# Altium integrated library Linear Technology Power Management Switching Regulator LT1074-LT8705.IntLib: 2252 symbols (part 111 of 148)
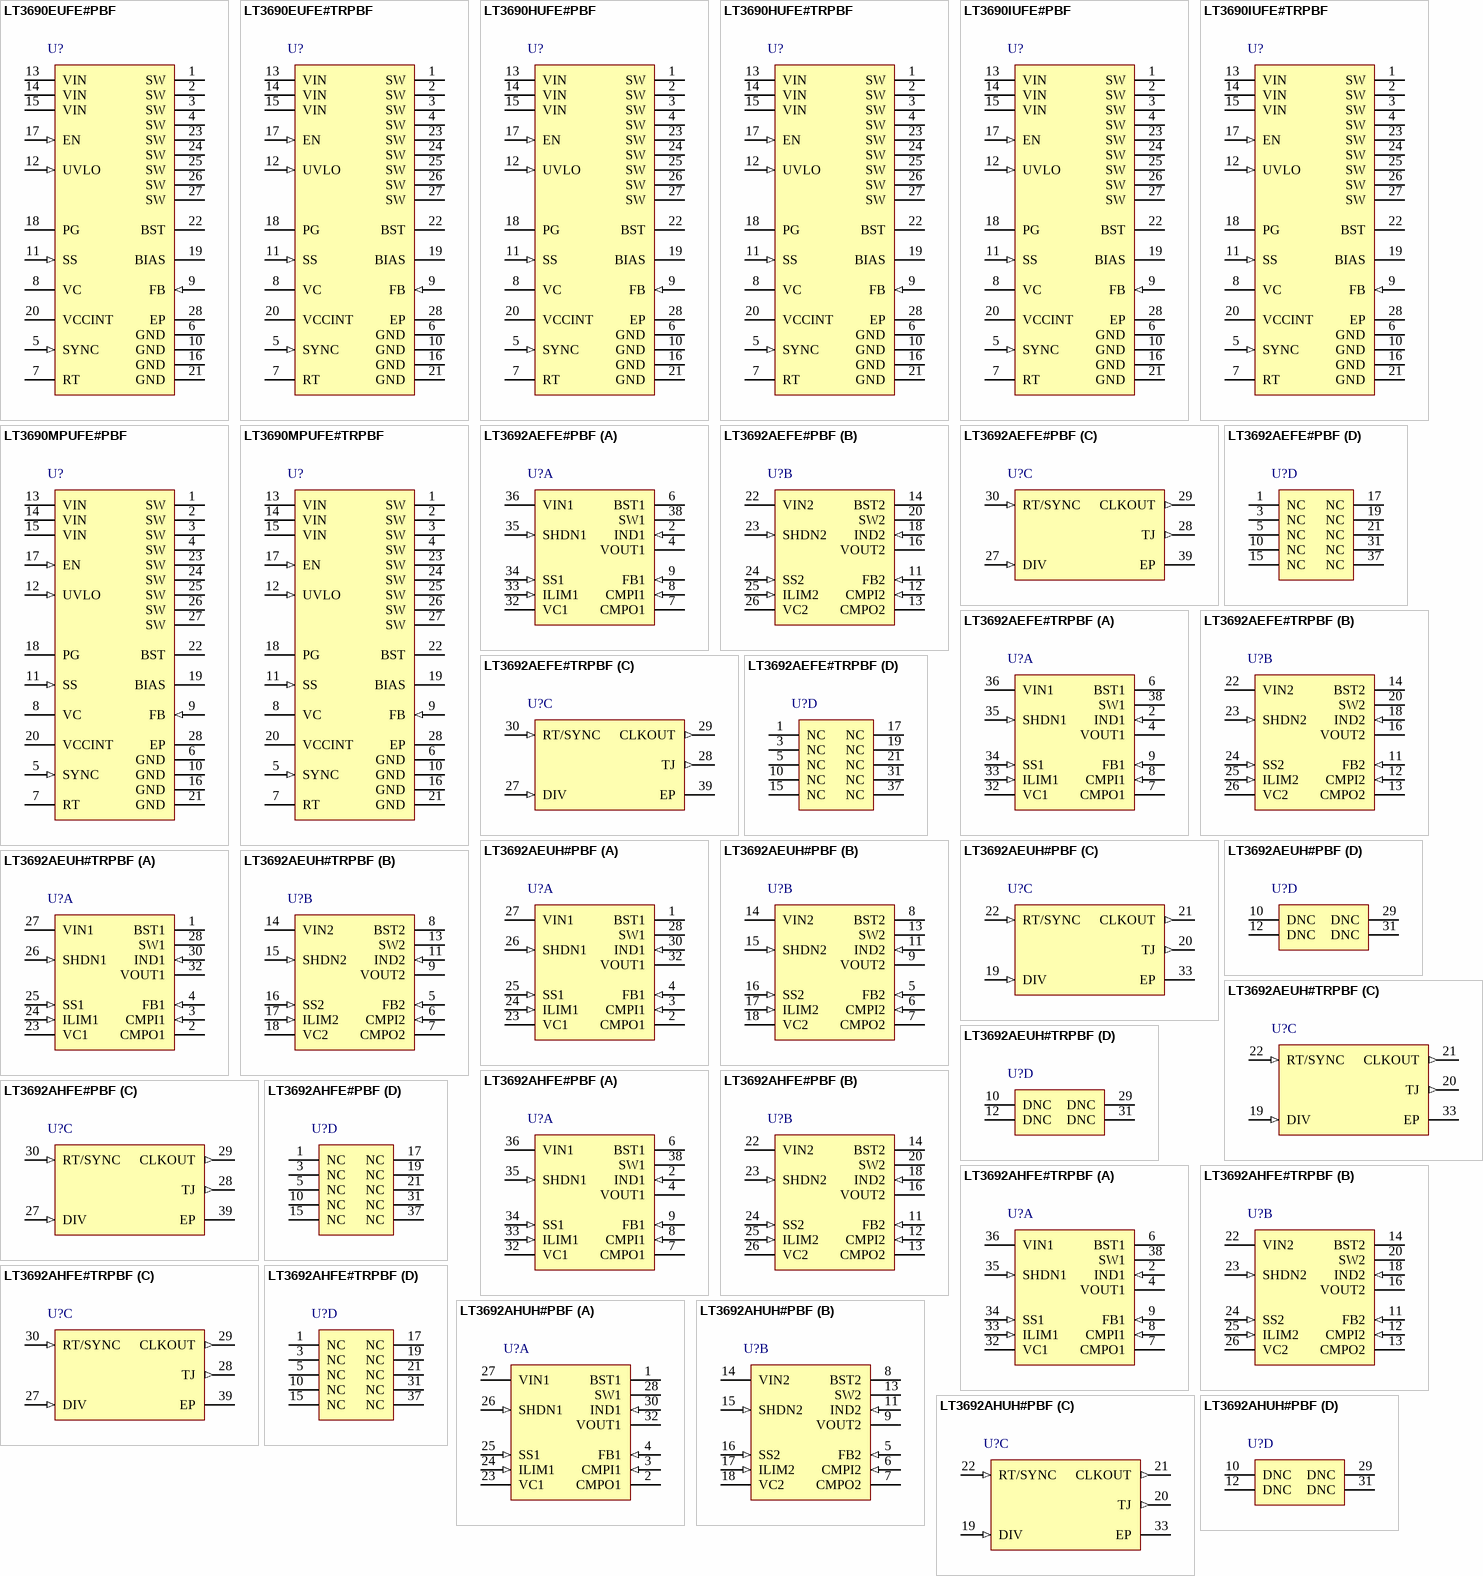
[diagram p181: symbols LT3690EUFE#PBF to LT3692AHUH#PBF]

## LT3690EUFE#TRPBF
designator U?
4 A, 1.5 MHz Synchronous Step-Down Switching Regulator with 70 uA Quiescent Current, 26-pin QFN (UFEMA-26), -40 to 125 degC, Pb-Free, Tape and Reel; Manufacturer: Linear Technology; PartNumber: LT3690EUFE#TRPBF; Frequency Adjust Range: 170kHz - 1.5MHz; Number of Outputs: 1; Over Voltage Protection(V): 60; DatasheetVersion: Rev. A; PackageVersion: Rev. A, 09/2010; PackageReference: UFEMA-26; PackageDescription: 26-Pin Plastic QFN, Body 6 x 4 mm, Pitch 0.5 mm; Supplier 1: Digi-Key; Supplier Part Number 1: LT3690EUFE#TRPBF-ND; Supplier 2: Newark; Supplier Part Number 2: 27T5840; Packing: Tape and Reel; RoHS: TRUE; Mounting Technology: Surface Mount; ComponentLink1Description: Manufacturer URL; ComponentLink1URL: http://www.linear.com/; ComponentLink2Description: Datasheet; ComponentLink2URL: http://cds.linear.com/docs/en/datasheet/3690fa.pdf; ComponentLink3Description: Package Specification; ComponentLink3URL: http://cds.linear.com/docs/en/packaging/QFN_26_05-08-1770.pdf
footprint LT-UFEMA-26_V (QFN, 26-Leads, Body 6x4mm, Pitch 0.5mm)
pins: 1 SW (power) "The SW pin is the emitter output of the internal highside NPN power switch (HS) and the drain output of the internal lowside power N-channel switch (LS). Connect this pin to the inductor and boost capacitor. This pin is (See Datasheet)", 2 SW (power) "The SW pin is the emitter output of the internal highside NPN power switch (HS) and the drain output of the internal lowside power N-channel switch (LS). Connect this pin to the inductor and boost capacitor. This pin is (See Datasheet)", 3 SW (power) "The SW pin is the emitter output of the internal highside NPN power switch (HS) and the drain output of the internal lowside power N-channel switch (LS). Connect this pin to the inductor and boost capacitor. This pin is (See Datasheet)", 4 SW (power) "The SW pin is the emitter output of the internal highside NPN power switch (HS) and the drain output of the internal lowside power N-channel switch (LS). Connect this pin to the inductor and boost capacitor. This pin is (See Datasheet)", 5 SYNC (in) "The SYNC pin is used to synchronize the internal oscillator to an external signal. It is directly logic compatible and can be driven with any signal between 20% and 80% duty cycle. The synchronizing range is from 170kHz to 1.(See Datasheet)", 6 GND (power) "Ground.", 7 RT "Oscillator Resistor Input. Connecting a resistor to ground (Pin 10) from this pin sets the switching frequency.", 8 VC "The VC pin is the output of the internal error amplifier. The voltage on this pin controls the peak switch current. Tie an RC network from this pin to ground to compensate the control loop.", 9 FB (in) "The LT3690 regulates the FB pin to 0.8V. Connect the feedback resistor divider tap to this pin. The adjacent ground pin (Pin 10) is recommended for the resistor divider.", 10 GND (power) "Ground.", 11 SS (in) "The SS pin is used to provide a soft-start or tracking function. The internal 2uA pull-up current ISS in combination with an external capacitor tied to this pin creates a voltage ramp. The output voltage tracks to this (See Datasheet)", 12 UVLO (in) "Tie a resistor divider between VIN, UVLO, and GND to program an undervoltage lockout threshold. The UVLO pin has an accurate 1.25V threshold. Above the threshold, the part operates normally. Below the threshold, the part (See Datasheet)", 13 VIN (power) "The VIN pin supplies current to the LT3690’s internal regulator and to the internal power switch. This pin must be locally bypassed.", 14 VIN (power) "The VIN pin supplies current to the LT3690’s internal regulator and to the internal power switch. This pin must be locally bypassed.", 15 VIN (power) "The VIN pin supplies current to the LT3690’s internal regulator and to the internal power switch. This pin must be locally bypassed.", 16 GND (power) "Ground.", 17 EN (in) "The EN input is used to put the LT3690 in shutdown mode. Pull to GND to shut down the LT3690. Tie to 1.5V or more for normal operation.", 18 PG (oc) "The PG pin is the open collector output of an internal comparator. PG remains low until the FB pin is within 10% of the final regulation voltage. The PG output is valid when VIN is above 3.9V and EN is high.", 19 BIAS (power) "This pin connects to the anode of the internal boost Schottky diode. BIAS also supplies the current to the LT3690’s internal regulator. Tie this pin to the lowest available voltage source above 3V (typically VOUT). Thi(See Datasheet)", 20 VCCINT (power) "VCCINT is an output of the internally generated supply voltage for the synchronous power DMOS transistor driver. An external capacitor CVCC must be connected between this pin and ground (Pin 21) to buffer the internal supply (See Datasheet)", 21 GND (power) "Ground.", 22 BST "This pin is used to provide, with the external boost capacitor, a drive voltage higher than the input voltage VIN to the internal bipolar NPN power switch.", 23 SW (power) "The SW pin is the emitter output of the internal highside NPN power switch (HS) and the drain output of the internal lowside power N-channel switch (LS). Connect this pin to the inductor and boost capacitor. This pin is (See Datasheet)", 24 SW (power) "The SW pin is the emitter output of the internal highside NPN power switch (HS) and the drain output of the internal lowside power N-channel switch (LS). Connect this pin to the inductor and boost capacitor. This pin is (See Datasheet)", 25 SW (power) "The SW pin is the emitter output of the internal highside NPN power switch (HS) and the drain output of the internal lowside power N-channel switch (LS). Connect this pin to the inductor and boost capacitor. This pin is (See Datasheet)", 26 SW (power) "The SW pin is the emitter output of the internal highside NPN power switch (HS) and the drain output of the internal lowside power N-channel switch (LS). Connect this pin to the inductor and boost capacitor. This pin is (See Datasheet)", 27 SW (power) "The exposed pad is connected internally with SW pins 1-4, 23-26 and should be soldered to a large copper area to reduce thermal resistance.", 28 EP (power) "Ground. The exposed pad is connected internally to GND Pins 6, 10, 16 and 21, and should be soldered to a large copper area to reduce thermal resistance."

## LT3690HUFE#PBF
designator U?
4 A, 1.5 MHz Synchronous Step-Down Switching Regulator with 70 uA Quiescent Current, 26-pin QFN (UFEMA-26), -40 to 150 degC, Pb-Free; Manufacturer: Linear Technology; PartNumber: LT3690HUFE#PBF; Frequency Adjust Range: 170kHz - 1.5MHz; Number of Outputs: 1; Over Voltage Protection(V): 60; DatasheetVersion: Rev. A; PackageVersion: Rev. A, 09/2010; PackageReference: UFEMA-26; PackageDescription: 26-Pin Plastic QFN, Body 6 x 4 mm, Pitch 0.5 mm; Supplier 1: Digi-Key; Supplier Part Number 1: LT3690HUFE#PBF-ND; Supplier 2: Newark; Supplier Part Number 2: 78T4038; RoHS: TRUE; Mounting Technology: Surface Mount; ComponentLink1Description: Manufacturer URL; ComponentLink1URL: http://www.linear.com/; ComponentLink2Description: Datasheet; ComponentLink2URL: http://cds.linear.com/docs/en/datasheet/3690fa.pdf; ComponentLink3Description: Package Specification; ComponentLink3URL: http://cds.linear.com/docs/en/packaging/QFN_26_05-08-1770.pdf
footprint LT-UFEMA-26_V (QFN, 26-Leads, Body 6x4mm, Pitch 0.5mm)
pins: 1 SW (power) "The SW pin is the emitter output of the internal highside NPN power switch (HS) and the drain output of the internal lowside power N-channel switch (LS). Connect this pin to the inductor and boost capacitor. This pin is (See Datasheet)", 2 SW (power) "The SW pin is the emitter output of the internal highside NPN power switch (HS) and the drain output of the internal lowside power N-channel switch (LS). Connect this pin to the inductor and boost capacitor. This pin is (See Datasheet)", 3 SW (power) "The SW pin is the emitter output of the internal highside NPN power switch (HS) and the drain output of the internal lowside power N-channel switch (LS). Connect this pin to the inductor and boost capacitor. This pin is (See Datasheet)", 4 SW (power) "The SW pin is the emitter output of the internal highside NPN power switch (HS) and the drain output of the internal lowside power N-channel switch (LS). Connect this pin to the inductor and boost capacitor. This pin is (See Datasheet)", 5 SYNC (in) "The SYNC pin is used to synchronize the internal oscillator to an external signal. It is directly logic compatible and can be driven with any signal between 20% and 80% duty cycle. The synchronizing range is from 170kHz to 1.(See Datasheet)", 6 GND (power) "Ground.", 7 RT "Oscillator Resistor Input. Connecting a resistor to ground (Pin 10) from this pin sets the switching frequency.", 8 VC "The VC pin is the output of the internal error amplifier. The voltage on this pin controls the peak switch current. Tie an RC network from this pin to ground to compensate the control loop.", 9 FB (in) "The LT3690 regulates the FB pin to 0.8V. Connect the feedback resistor divider tap to this pin. The adjacent ground pin (Pin 10) is recommended for the resistor divider.", 10 GND (power) "Ground.", 11 SS (in) "The SS pin is used to provide a soft-start or tracking function. The internal 2uA pull-up current ISS in combination with an external capacitor tied to this pin creates a voltage ramp. The output voltage tracks to this (See Datasheet)", 12 UVLO (in) "Tie a resistor divider between VIN, UVLO, and GND to program an undervoltage lockout threshold. The UVLO pin has an accurate 1.25V threshold. Above the threshold, the part operates normally. Below the threshold, the part (See Datasheet)", 13 VIN (power) "The VIN pin supplies current to the LT3690’s internal regulator and to the internal power switch. This pin must be locally bypassed.", 14 VIN (power) "The VIN pin supplies current to the LT3690’s internal regulator and to the internal power switch. This pin must be locally bypassed.", 15 VIN (power) "The VIN pin supplies current to the LT3690’s internal regulator and to the internal power switch. This pin must be locally bypassed.", 16 GND (power) "Ground.", 17 EN (in) "The EN input is used to put the LT3690 in shutdown mode. Pull to GND to shut down the LT3690. Tie to 1.5V or more for normal operation.", 18 PG (oc) "The PG pin is the open collector output of an internal comparator. PG remains low until the FB pin is within 10% of the final regulation voltage. The PG output is valid when VIN is above 3.9V and EN is high.", 19 BIAS (power) "This pin connects to the anode of the internal boost Schottky diode. BIAS also supplies the current to the LT3690’s internal regulator. Tie this pin to the lowest available voltage source above 3V (typically VOUT). Thi(See Datasheet)", 20 VCCINT (power) "VCCINT is an output of the internally generated supply voltage for the synchronous power DMOS transistor driver. An external capacitor CVCC must be connected between this pin and ground (Pin 21) to buffer the internal supply (See Datasheet)", 21 GND (power) "Ground.", 22 BST "This pin is used to provide, with the external boost capacitor, a drive voltage higher than the input voltage VIN to the internal bipolar NPN power switch.", 23 SW (power) "The SW pin is the emitter output of the internal highside NPN power switch (HS) and the drain output of the internal lowside power N-channel switch (LS). Connect this pin to the inductor and boost capacitor. This pin is (See Datasheet)", 24 SW (power) "The SW pin is the emitter output of the internal highside NPN power switch (HS) and the drain output of the internal lowside power N-channel switch (LS). Connect this pin to the inductor and boost capacitor. This pin is (See Datasheet)", 25 SW (power) "The SW pin is the emitter output of the internal highside NPN power switch (HS) and the drain output of the internal lowside power N-channel switch (LS). Connect this pin to the inductor and boost capacitor. This pin is (See Datasheet)", 26 SW (power) "The SW pin is the emitter output of the internal highside NPN power switch (HS) and the drain output of the internal lowside power N-channel switch (LS). Connect this pin to the inductor and boost capacitor. This pin is (See Datasheet)", 27 SW (power) "The exposed pad is connected internally with SW pins 1-4, 23-26 and should be soldered to a large copper area to reduce thermal resistance.", 28 EP (power) "Ground. The exposed pad is connected internally to GND Pins 6, 10, 16 and 21, and should be soldered to a large copper area to reduce thermal resistance."

## LT3690HUFE#TRPBF
designator U?
4 A, 1.5 MHz Synchronous Step-Down Switching Regulator with 70 uA Quiescent Current, 26-pin QFN (UFEMA-26), -40 to 150 degC, Pb-Free, Tape and Reel; Manufacturer: Linear Technology; PartNumber: LT3690HUFE#TRPBF; Frequency Adjust Range: 170kHz - 1.5MHz; Number of Outputs: 1; Over Voltage Protection(V): 60; DatasheetVersion: Rev. A; PackageVersion: Rev. A, 09/2010; PackageReference: UFEMA-26; PackageDescription: 26-Pin Plastic QFN, Body 6 x 4 mm, Pitch 0.5 mm; Supplier 1: Digi-Key; Supplier Part Number 1: LT3690HUFE#TRPBF-ND; Supplier 2: Newark; Supplier Part Number 2: 78T4039; Packing: Tape and Reel; RoHS: TRUE; Mounting Technology: Surface Mount; ComponentLink1Description: Manufacturer URL; ComponentLink1URL: http://www.linear.com/; ComponentLink2Description: Datasheet; ComponentLink2URL: http://cds.linear.com/docs/en/datasheet/3690fa.pdf; ComponentLink3Description: Package Specification; ComponentLink3URL: http://cds.linear.com/docs/en/packaging/QFN_26_05-08-1770.pdf
footprint LT-UFEMA-26_V (QFN, 26-Leads, Body 6x4mm, Pitch 0.5mm)
pins: 1 SW (power) "The SW pin is the emitter output of the internal highside NPN power switch (HS) and the drain output of the internal lowside power N-channel switch (LS). Connect this pin to the inductor and boost capacitor. This pin is (See Datasheet)", 2 SW (power) "The SW pin is the emitter output of the internal highside NPN power switch (HS) and the drain output of the internal lowside power N-channel switch (LS). Connect this pin to the inductor and boost capacitor. This pin is (See Datasheet)", 3 SW (power) "The SW pin is the emitter output of the internal highside NPN power switch (HS) and the drain output of the internal lowside power N-channel switch (LS). Connect this pin to the inductor and boost capacitor. This pin is (See Datasheet)", 4 SW (power) "The SW pin is the emitter output of the internal highside NPN power switch (HS) and the drain output of the internal lowside power N-channel switch (LS). Connect this pin to the inductor and boost capacitor. This pin is (See Datasheet)", 5 SYNC (in) "The SYNC pin is used to synchronize the internal oscillator to an external signal. It is directly logic compatible and can be driven with any signal between 20% and 80% duty cycle. The synchronizing range is from 170kHz to 1.(See Datasheet)", 6 GND (power) "Ground.", 7 RT "Oscillator Resistor Input. Connecting a resistor to ground (Pin 10) from this pin sets the switching frequency.", 8 VC "The VC pin is the output of the internal error amplifier. The voltage on this pin controls the peak switch current. Tie an RC network from this pin to ground to compensate the control loop.", 9 FB (in) "The LT3690 regulates the FB pin to 0.8V. Connect the feedback resistor divider tap to this pin. The adjacent ground pin (Pin 10) is recommended for the resistor divider.", 10 GND (power) "Ground.", 11 SS (in) "The SS pin is used to provide a soft-start or tracking function. The internal 2uA pull-up current ISS in combination with an external capacitor tied to this pin creates a voltage ramp. The output voltage tracks to this (See Datasheet)", 12 UVLO (in) "Tie a resistor divider between VIN, UVLO, and GND to program an undervoltage lockout threshold. The UVLO pin has an accurate 1.25V threshold. Above the threshold, the part operates normally. Below the threshold, the part (See Datasheet)", 13 VIN (power) "The VIN pin supplies current to the LT3690’s internal regulator and to the internal power switch. This pin must be locally bypassed.", 14 VIN (power) "The VIN pin supplies current to the LT3690’s internal regulator and to the internal power switch. This pin must be locally bypassed.", 15 VIN (power) "The VIN pin supplies current to the LT3690’s internal regulator and to the internal power switch. This pin must be locally bypassed.", 16 GND (power) "Ground.", 17 EN (in) "The EN input is used to put the LT3690 in shutdown mode. Pull to GND to shut down the LT3690. Tie to 1.5V or more for normal operation.", 18 PG (oc) "The PG pin is the open collector output of an internal comparator. PG remains low until the FB pin is within 10% of the final regulation voltage. The PG output is valid when VIN is above 3.9V and EN is high.", 19 BIAS (power) "This pin connects to the anode of the internal boost Schottky diode. BIAS also supplies the current to the LT3690’s internal regulator. Tie this pin to the lowest available voltage source above 3V (typically VOUT). Thi(See Datasheet)", 20 VCCINT (power) "VCCINT is an output of the internally generated supply voltage for the synchronous power DMOS transistor driver. An external capacitor CVCC must be connected between this pin and ground (Pin 21) to buffer the internal supply (See Datasheet)", 21 GND (power) "Ground.", 22 BST "This pin is used to provide, with the external boost capacitor, a drive voltage higher than the input voltage VIN to the internal bipolar NPN power switch.", 23 SW (power) "The SW pin is the emitter output of the internal highside NPN power switch (HS) and the drain output of the internal lowside power N-channel switch (LS). Connect this pin to the inductor and boost capacitor. This pin is (See Datasheet)", 24 SW (power) "The SW pin is the emitter output of the internal highside NPN power switch (HS) and the drain output of the internal lowside power N-channel switch (LS). Connect this pin to the inductor and boost capacitor. This pin is (See Datasheet)", 25 SW (power) "The SW pin is the emitter output of the internal highside NPN power switch (HS) and the drain output of the internal lowside power N-channel switch (LS). Connect this pin to the inductor and boost capacitor. This pin is (See Datasheet)", 26 SW (power) "The SW pin is the emitter output of the internal highside NPN power switch (HS) and the drain output of the internal lowside power N-channel switch (LS). Connect this pin to the inductor and boost capacitor. This pin is (See Datasheet)", 27 SW (power) "The exposed pad is connected internally with SW pins 1-4, 23-26 and should be soldered to a large copper area to reduce thermal resistance.", 28 EP (power) "Ground. The exposed pad is connected internally to GND Pins 6, 10, 16 and 21, and should be soldered to a large copper area to reduce thermal resistance."

## LT3690IUFE#PBF
designator U?
4 A, 1.5 MHz Synchronous Step-Down Switching Regulator with 70 uA Quiescent Current, 26-pin QFN (UFEMA-26), -40 to 125 degC, Pb-Free; Manufacturer: Linear Technology; PartNumber: LT3690IUFE#PBF; Frequency Adjust Range: 170kHz - 1.5MHz; Number of Outputs: 1; Over Voltage Protection(V): 60; DatasheetVersion: Rev. A; PackageVersion: Rev. A, 09/2010; PackageReference: UFEMA-26; PackageDescription: 26-Pin Plastic QFN, Body 6 x 4 mm, Pitch 0.5 mm; Supplier 1: Digi-Key; Supplier Part Number 1: LT3690IUFE#PBF-ND; Supplier 2: Newark; Supplier Part Number 2: 27T5841; RoHS: TRUE; Mounting Technology: Surface Mount; ComponentLink1Description: Manufacturer URL; ComponentLink1URL: http://www.linear.com/; ComponentLink2Description: Datasheet; ComponentLink2URL: http://cds.linear.com/docs/en/datasheet/3690fa.pdf; ComponentLink3Description: Package Specification; ComponentLink3URL: http://cds.linear.com/docs/en/packaging/QFN_26_05-08-1770.pdf
footprint LT-UFEMA-26_V (QFN, 26-Leads, Body 6x4mm, Pitch 0.5mm)
pins: 1 SW (power) "The SW pin is the emitter output of the internal highside NPN power switch (HS) and the drain output of the internal lowside power N-channel switch (LS). Connect this pin to the inductor and boost capacitor. This pin is (See Datasheet)", 2 SW (power) "The SW pin is the emitter output of the internal highside NPN power switch (HS) and the drain output of the internal lowside power N-channel switch (LS). Connect this pin to the inductor and boost capacitor. This pin is (See Datasheet)", 3 SW (power) "The SW pin is the emitter output of the internal highside NPN power switch (HS) and the drain output of the internal lowside power N-channel switch (LS). Connect this pin to the inductor and boost capacitor. This pin is (See Datasheet)", 4 SW (power) "The SW pin is the emitter output of the internal highside NPN power switch (HS) and the drain output of the internal lowside power N-channel switch (LS). Connect this pin to the inductor and boost capacitor. This pin is (See Datasheet)", 5 SYNC (in) "The SYNC pin is used to synchronize the internal oscillator to an external signal. It is directly logic compatible and can be driven with any signal between 20% and 80% duty cycle. The synchronizing range is from 170kHz to 1.(See Datasheet)", 6 GND (power) "Ground.", 7 RT "Oscillator Resistor Input. Connecting a resistor to ground (Pin 10) from this pin sets the switching frequency.", 8 VC "The VC pin is the output of the internal error amplifier. The voltage on this pin controls the peak switch current. Tie an RC network from this pin to ground to compensate the control loop.", 9 FB (in) "The LT3690 regulates the FB pin to 0.8V. Connect the feedback resistor divider tap to this pin. The adjacent ground pin (Pin 10) is recommended for the resistor divider.", 10 GND (power) "Ground.", 11 SS (in) "The SS pin is used to provide a soft-start or tracking function. The internal 2uA pull-up current ISS in combination with an external capacitor tied to this pin creates a voltage ramp. The output voltage tracks to this (See Datasheet)", 12 UVLO (in) "Tie a resistor divider between VIN, UVLO, and GND to program an undervoltage lockout threshold. The UVLO pin has an accurate 1.25V threshold. Above the threshold, the part operates normally. Below the threshold, the part (See Datasheet)", 13 VIN (power) "The VIN pin supplies current to the LT3690’s internal regulator and to the internal power switch. This pin must be locally bypassed.", 14 VIN (power) "The VIN pin supplies current to the LT3690’s internal regulator and to the internal power switch. This pin must be locally bypassed.", 15 VIN (power) "The VIN pin supplies current to the LT3690’s internal regulator and to the internal power switch. This pin must be locally bypassed.", 16 GND (power) "Ground.", 17 EN (in) "The EN input is used to put the LT3690 in shutdown mode. Pull to GND to shut down the LT3690. Tie to 1.5V or more for normal operation.", 18 PG (oc) "The PG pin is the open collector output of an internal comparator. PG remains low until the FB pin is within 10% of the final regulation voltage. The PG output is valid when VIN is above 3.9V and EN is high.", 19 BIAS (power) "This pin connects to the anode of the internal boost Schottky diode. BIAS also supplies the current to the LT3690’s internal regulator. Tie this pin to the lowest available voltage source above 3V (typically VOUT). Thi(See Datasheet)", 20 VCCINT (power) "VCCINT is an output of the internally generated supply voltage for the synchronous power DMOS transistor driver. An external capacitor CVCC must be connected between this pin and ground (Pin 21) to buffer the internal supply (See Datasheet)", 21 GND (power) "Ground.", 22 BST "This pin is used to provide, with the external boost capacitor, a drive voltage higher than the input voltage VIN to the internal bipolar NPN power switch.", 23 SW (power) "The SW pin is the emitter output of the internal highside NPN power switch (HS) and the drain output of the internal lowside power N-channel switch (LS). Connect this pin to the inductor and boost capacitor. This pin is (See Datasheet)", 24 SW (power) "The SW pin is the emitter output of the internal highside NPN power switch (HS) and the drain output of the internal lowside power N-channel switch (LS). Connect this pin to the inductor and boost capacitor. This pin is (See Datasheet)", 25 SW (power) "The SW pin is the emitter output of the internal highside NPN power switch (HS) and the drain output of the internal lowside power N-channel switch (LS). Connect this pin to the inductor and boost capacitor. This pin is (See Datasheet)", 26 SW (power) "The SW pin is the emitter output of the internal highside NPN power switch (HS) and the drain output of the internal lowside power N-channel switch (LS). Connect this pin to the inductor and boost capacitor. This pin is (See Datasheet)", 27 SW (power) "The exposed pad is connected internally with SW pins 1-4, 23-26 and should be soldered to a large copper area to reduce thermal resistance.", 28 EP (power) "Ground. The exposed pad is connected internally to GND Pins 6, 10, 16 and 21, and should be soldered to a large copper area to reduce thermal resistance."

## LT3690IUFE#TRPBF
designator U?
4 A, 1.5 MHz Synchronous Step-Down Switching Regulator with 70 uA Quiescent Current, 26-pin QFN (UFEMA-26), -40 to 125 degC, Pb-Free, Tape and Reel; Manufacturer: Linear Technology; PartNumber: LT3690IUFE#TRPBF; Frequency Adjust Range: 170kHz - 1.5MHz; Number of Outputs: 1; Over Voltage Protection(V): 60; DatasheetVersion: Rev. A; PackageVersion: Rev. A, 09/2010; PackageReference: UFEMA-26; PackageDescription: 26-Pin Plastic QFN, Body 6 x 4 mm, Pitch 0.5 mm; Supplier 1: Digi-Key; Supplier Part Number 1: LT3690IUFE#TRPBF-ND; Supplier 2: Newark; Supplier Part Number 2: 27T5842; Packing: Tape and Reel; RoHS: TRUE; Mounting Technology: Surface Mount; ComponentLink1Description: Manufacturer URL; ComponentLink1URL: http://www.linear.com/; ComponentLink2Description: Datasheet; ComponentLink2URL: http://cds.linear.com/docs/en/datasheet/3690fa.pdf; ComponentLink3Description: Package Specification; ComponentLink3URL: http://cds.linear.com/docs/en/packaging/QFN_26_05-08-1770.pdf
footprint LT-UFEMA-26_V (QFN, 26-Leads, Body 6x4mm, Pitch 0.5mm)
pins: 1 SW (power) "The SW pin is the emitter output of the internal highside NPN power switch (HS) and the drain output of the internal lowside power N-channel switch (LS). Connect this pin to the inductor and boost capacitor. This pin is (See Datasheet)", 2 SW (power) "The SW pin is the emitter output of the internal highside NPN power switch (HS) and the drain output of the internal lowside power N-channel switch (LS). Connect this pin to the inductor and boost capacitor. This pin is (See Datasheet)", 3 SW (power) "The SW pin is the emitter output of the internal highside NPN power switch (HS) and the drain output of the internal lowside power N-channel switch (LS). Connect this pin to the inductor and boost capacitor. This pin is (See Datasheet)", 4 SW (power) "The SW pin is the emitter output of the internal highside NPN power switch (HS) and the drain output of the internal lowside power N-channel switch (LS). Connect this pin to the inductor and boost capacitor. This pin is (See Datasheet)", 5 SYNC (in) "The SYNC pin is used to synchronize the internal oscillator to an external signal. It is directly logic compatible and can be driven with any signal between 20% and 80% duty cycle. The synchronizing range is from 170kHz to 1.(See Datasheet)", 6 GND (power) "Ground.", 7 RT "Oscillator Resistor Input. Connecting a resistor to ground (Pin 10) from this pin sets the switching frequency.", 8 VC "The VC pin is the output of the internal error amplifier. The voltage on this pin controls the peak switch current. Tie an RC network from this pin to ground to compensate the control loop.", 9 FB (in) "The LT3690 regulates the FB pin to 0.8V. Connect the feedback resistor divider tap to this pin. The adjacent ground pin (Pin 10) is recommended for the resistor divider.", 10 GND (power) "Ground.", 11 SS (in) "The SS pin is used to provide a soft-start or tracking function. The internal 2uA pull-up current ISS in combination with an external capacitor tied to this pin creates a voltage ramp. The output voltage tracks to this (See Datasheet)", 12 UVLO (in) "Tie a resistor divider between VIN, UVLO, and GND to program an undervoltage lockout threshold. The UVLO pin has an accurate 1.25V threshold. Above the threshold, the part operates normally. Below the threshold, the part (See Datasheet)", 13 VIN (power) "The VIN pin supplies current to the LT3690’s internal regulator and to the internal power switch. This pin must be locally bypassed.", 14 VIN (power) "The VIN pin supplies current to the LT3690’s internal regulator and to the internal power switch. This pin must be locally bypassed.", 15 VIN (power) "The VIN pin supplies current to the LT3690’s internal regulator and to the internal power switch. This pin must be locally bypassed.", 16 GND (power) "Ground.", 17 EN (in) "The EN input is used to put the LT3690 in shutdown mode. Pull to GND to shut down the LT3690. Tie to 1.5V or more for normal operation.", 18 PG (oc) "The PG pin is the open collector output of an internal comparator. PG remains low until the FB pin is within 10% of the final regulation voltage. The PG output is valid when VIN is above 3.9V and EN is high.", 19 BIAS (power) "This pin connects to the anode of the internal boost Schottky diode. BIAS also supplies the current to the LT3690’s internal regulator. Tie this pin to the lowest available voltage source above 3V (typically VOUT). Thi(See Datasheet)", 20 VCCINT (power) "VCCINT is an output of the internally generated supply voltage for the synchronous power DMOS transistor driver. An external capacitor CVCC must be connected between this pin and ground (Pin 21) to buffer the internal supply (See Datasheet)", 21 GND (power) "Ground.", 22 BST "This pin is used to provide, with the external boost capacitor, a drive voltage higher than the input voltage VIN to the internal bipolar NPN power switch.", 23 SW (power) "The SW pin is the emitter output of the internal highside NPN power switch (HS) and the drain output of the internal lowside power N-channel switch (LS). Connect this pin to the inductor and boost capacitor. This pin is (See Datasheet)", 24 SW (power) "The SW pin is the emitter output of the internal highside NPN power switch (HS) and the drain output of the internal lowside power N-channel switch (LS). Connect this pin to the inductor and boost capacitor. This pin is (See Datasheet)", 25 SW (power) "The SW pin is the emitter output of the internal highside NPN power switch (HS) and the drain output of the internal lowside power N-channel switch (LS). Connect this pin to the inductor and boost capacitor. This pin is (See Datasheet)", 26 SW (power) "The SW pin is the emitter output of the internal highside NPN power switch (HS) and the drain output of the internal lowside power N-channel switch (LS). Connect this pin to the inductor and boost capacitor. This pin is (See Datasheet)", 27 SW (power) "The exposed pad is connected internally with SW pins 1-4, 23-26 and should be soldered to a large copper area to reduce thermal resistance.", 28 EP (power) "Ground. The exposed pad is connected internally to GND Pins 6, 10, 16 and 21, and should be soldered to a large copper area to reduce thermal resistance."

## LT3690MPUFE#PBF
designator U?
4 A, 1.5 MHz Synchronous Step-Down Switching Regulator with 70 uA Quiescent Current, 26-pin QFN (UFEMA-26), -55 to 150 degC, Pb-Free; Manufacturer: Linear Technology; PartNumber: LT3690MPUFE#PBF; Frequency Adjust Range: 170kHz - 1.5MHz; Number of Outputs: 1; Over Voltage Protection(V): 60; DatasheetVersion: Rev. A; PackageVersion: Rev. A, 09/2010; PackageReference: UFEMA-26; PackageDescription: 26-Pin Plastic QFN, Body 6 x 4 mm, Pitch 0.5 mm; Supplier 1: Digi-Key; Supplier Part Number 1: LT3690MPUFE#PBF-ND; Supplier 2: Newark; Supplier Part Number 2: 78T4040; RoHS: TRUE; Mounting Technology: Surface Mount; ComponentLink1Description: Manufacturer URL; ComponentLink1URL: http://www.linear.com/; ComponentLink2Description: Datasheet; ComponentLink2URL: http://cds.linear.com/docs/en/datasheet/3690fa.pdf; ComponentLink3Description: Package Specification; ComponentLink3URL: http://cds.linear.com/docs/en/packaging/QFN_26_05-08-1770.pdf
footprint LT-UFEMA-26_V (QFN, 26-Leads, Body 6x4mm, Pitch 0.5mm)
pins: 1 SW (power) "The SW pin is the emitter output of the internal highside NPN power switch (HS) and the drain output of the internal lowside power N-channel switch (LS). Connect this pin to the inductor and boost capacitor. This pin is (See Datasheet)", 2 SW (power) "The SW pin is the emitter output of the internal highside NPN power switch (HS) and the drain output of the internal lowside power N-channel switch (LS). Connect this pin to the inductor and boost capacitor. This pin is (See Datasheet)", 3 SW (power) "The SW pin is the emitter output of the internal highside NPN power switch (HS) and the drain output of the internal lowside power N-channel switch (LS). Connect this pin to the inductor and boost capacitor. This pin is (See Datasheet)", 4 SW (power) "The SW pin is the emitter output of the internal highside NPN power switch (HS) and the drain output of the internal lowside power N-channel switch (LS). Connect this pin to the inductor and boost capacitor. This pin is (See Datasheet)", 5 SYNC (in) "The SYNC pin is used to synchronize the internal oscillator to an external signal. It is directly logic compatible and can be driven with any signal between 20% and 80% duty cycle. The synchronizing range is from 170kHz to 1.(See Datasheet)", 6 GND (power) "Ground.", 7 RT "Oscillator Resistor Input. Connecting a resistor to ground (Pin 10) from this pin sets the switching frequency.", 8 VC "The VC pin is the output of the internal error amplifier. The voltage on this pin controls the peak switch current. Tie an RC network from this pin to ground to compensate the control loop.", 9 FB (in) "The LT3690 regulates the FB pin to 0.8V. Connect the feedback resistor divider tap to this pin. The adjacent ground pin (Pin 10) is recommended for the resistor divider.", 10 GND (power) "Ground.", 11 SS (in) "The SS pin is used to provide a soft-start or tracking function. The internal 2uA pull-up current ISS in combination with an external capacitor tied to this pin creates a voltage ramp. The output voltage tracks to this (See Datasheet)", 12 UVLO (in) "Tie a resistor divider between VIN, UVLO, and GND to program an undervoltage lockout threshold. The UVLO pin has an accurate 1.25V threshold. Above the threshold, the part operates normally. Below the threshold, the part (See Datasheet)", 13 VIN (power) "The VIN pin supplies current to the LT3690’s internal regulator and to the internal power switch. This pin must be locally bypassed.", 14 VIN (power) "The VIN pin supplies current to the LT3690’s internal regulator and to the internal power switch. This pin must be locally bypassed.", 15 VIN (power) "The VIN pin supplies current to the LT3690’s internal regulator and to the internal power switch. This pin must be locally bypassed.", 16 GND (power) "Ground.", 17 EN (in) "The EN input is used to put the LT3690 in shutdown mode. Pull to GND to shut down the LT3690. Tie to 1.5V or more for normal operation.", 18 PG (oc) "The PG pin is the open collector output of an internal comparator. PG remains low until the FB pin is within 10% of the final regulation voltage. The PG output is valid when VIN is above 3.9V and EN is high.", 19 BIAS (power) "This pin connects to the anode of the internal boost Schottky diode. BIAS also supplies the current to the LT3690’s internal regulator. Tie this pin to the lowest available voltage source above 3V (typically VOUT). Thi(See Datasheet)", 20 VCCINT (power) "VCCINT is an output of the internally generated supply voltage for the synchronous power DMOS transistor driver. An external capacitor CVCC must be connected between this pin and ground (Pin 21) to buffer the internal supply (See Datasheet)", 21 GND (power) "Ground.", 22 BST "This pin is used to provide, with the external boost capacitor, a drive voltage higher than the input voltage VIN to the internal bipolar NPN power switch.", 23 SW (power) "The SW pin is the emitter output of the internal highside NPN power switch (HS) and the drain output of the internal lowside power N-channel switch (LS). Connect this pin to the inductor and boost capacitor. This pin is (See Datasheet)", 24 SW (power) "The SW pin is the emitter output of the internal highside NPN power switch (HS) and the drain output of the internal lowside power N-channel switch (LS). Connect this pin to the inductor and boost capacitor. This pin is (See Datasheet)", 25 SW (power) "The SW pin is the emitter output of the internal highside NPN power switch (HS) and the drain output of the internal lowside power N-channel switch (LS). Connect this pin to the inductor and boost capacitor. This pin is (See Datasheet)", 26 SW (power) "The SW pin is the emitter output of the internal highside NPN power switch (HS) and the drain output of the internal lowside power N-channel switch (LS). Connect this pin to the inductor and boost capacitor. This pin is (See Datasheet)", 27 SW (power) "The exposed pad is connected internally with SW pins 1-4, 23-26 and should be soldered to a large copper area to reduce thermal resistance.", 28 EP (power) "Ground. The exposed pad is connected internally to GND Pins 6, 10, 16 and 21, and should be soldered to a large copper area to reduce thermal resistance."

## LT3690MPUFE#TRPBF
designator U?
4 A, 1.5 MHz Synchronous Step-Down Switching Regulator with 70 uA Quiescent Current, 26-pin QFN (UFEMA-26), -55 to 150 degC, Pb-Free, Tape and Reel; Manufacturer: Linear Technology; PartNumber: LT3690MPUFE#TRPBF; Frequency Adjust Range: 170kHz - 1.5MHz; Number of Outputs: 1; Over Voltage Protection(V): 60; DatasheetVersion: Rev. A; PackageVersion: Rev. A, 09/2010; PackageReference: UFEMA-26; PackageDescription: 26-Pin Plastic QFN, Body 6 x 4 mm, Pitch 0.5 mm; Supplier 1: Digi-Key; Supplier Part Number 1: LT3690MPUFE#TRPBF-ND; Supplier 2: Newark; Supplier Part Number 2: 78T4041; Packing: Tape and Reel; RoHS: TRUE; Mounting Technology: Surface Mount; ComponentLink1Description: Manufacturer URL; ComponentLink1URL: http://www.linear.com/; ComponentLink2Description: Datasheet; ComponentLink2URL: http://cds.linear.com/docs/en/datasheet/3690fa.pdf; ComponentLink3Description: Package Specification; ComponentLink3URL: http://cds.linear.com/docs/en/packaging/QFN_26_05-08-1770.pdf
footprint LT-UFEMA-26_V (QFN, 26-Leads, Body 6x4mm, Pitch 0.5mm)
pins: 1 SW (power) "The SW pin is the emitter output of the internal highside NPN power switch (HS) and the drain output of the internal lowside power N-channel switch (LS). Connect this pin to the inductor and boost capacitor. This pin is (See Datasheet)", 2 SW (power) "The SW pin is the emitter output of the internal highside NPN power switch (HS) and the drain output of the internal lowside power N-channel switch (LS). Connect this pin to the inductor and boost capacitor. This pin is (See Datasheet)", 3 SW (power) "The SW pin is the emitter output of the internal highside NPN power switch (HS) and the drain output of the internal lowside power N-channel switch (LS). Connect this pin to the inductor and boost capacitor. This pin is (See Datasheet)", 4 SW (power) "The SW pin is the emitter output of the internal highside NPN power switch (HS) and the drain output of the internal lowside power N-channel switch (LS). Connect this pin to the inductor and boost capacitor. This pin is (See Datasheet)", 5 SYNC (in) "The SYNC pin is used to synchronize the internal oscillator to an external signal. It is directly logic compatible and can be driven with any signal between 20% and 80% duty cycle. The synchronizing range is from 170kHz to 1.(See Datasheet)", 6 GND (power) "Ground.", 7 RT "Oscillator Resistor Input. Connecting a resistor to ground (Pin 10) from this pin sets the switching frequency.", 8 VC "The VC pin is the output of the internal error amplifier. The voltage on this pin controls the peak switch current. Tie an RC network from this pin to ground to compensate the control loop.", 9 FB (in) "The LT3690 regulates the FB pin to 0.8V. Connect the feedback resistor divider tap to this pin. The adjacent ground pin (Pin 10) is recommended for the resistor divider.", 10 GND (power) "Ground.", 11 SS (in) "The SS pin is used to provide a soft-start or tracking function. The internal 2uA pull-up current ISS in combination with an external capacitor tied to this pin creates a voltage ramp. The output voltage tracks to this (See Datasheet)", 12 UVLO (in) "Tie a resistor divider between VIN, UVLO, and GND to program an undervoltage lockout threshold. The UVLO pin has an accurate 1.25V threshold. Above the threshold, the part operates normally. Below the threshold, the part (See Datasheet)", 13 VIN (power) "The VIN pin supplies current to the LT3690’s internal regulator and to the internal power switch. This pin must be locally bypassed.", 14 VIN (power) "The VIN pin supplies current to the LT3690’s internal regulator and to the internal power switch. This pin must be locally bypassed.", 15 VIN (power) "The VIN pin supplies current to the LT3690’s internal regulator and to the internal power switch. This pin must be locally bypassed.", 16 GND (power) "Ground.", 17 EN (in) "The EN input is used to put the LT3690 in shutdown mode. Pull to GND to shut down the LT3690. Tie to 1.5V or more for normal operation.", 18 PG (oc) "The PG pin is the open collector output of an internal comparator. PG remains low until the FB pin is within 10% of the final regulation voltage. The PG output is valid when VIN is above 3.9V and EN is high.", 19 BIAS (power) "This pin connects to the anode of the internal boost Schottky diode. BIAS also supplies the current to the LT3690’s internal regulator. Tie this pin to the lowest available voltage source above 3V (typically VOUT). Thi(See Datasheet)", 20 VCCINT (power) "VCCINT is an output of the internally generated supply voltage for the synchronous power DMOS transistor driver. An external capacitor CVCC must be connected between this pin and ground (Pin 21) to buffer the internal supply (See Datasheet)", 21 GND (power) "Ground.", 22 BST "This pin is used to provide, with the external boost capacitor, a drive voltage higher than the input voltage VIN to the internal bipolar NPN power switch.", 23 SW (power) "The SW pin is the emitter output of the internal highside NPN power switch (HS) and the drain output of the internal lowside power N-channel switch (LS). Connect this pin to the inductor and boost capacitor. This pin is (See Datasheet)", 24 SW (power) "The SW pin is the emitter output of the internal highside NPN power switch (HS) and the drain output of the internal lowside power N-channel switch (LS). Connect this pin to the inductor and boost capacitor. This pin is (See Datasheet)", 25 SW (power) "The SW pin is the emitter output of the internal highside NPN power switch (HS) and the drain output of the internal lowside power N-channel switch (LS). Connect this pin to the inductor and boost capacitor. This pin is (See Datasheet)", 26 SW (power) "The SW pin is the emitter output of the internal highside NPN power switch (HS) and the drain output of the internal lowside power N-channel switch (LS). Connect this pin to the inductor and boost capacitor. This pin is (See Datasheet)", 27 SW (power) "The exposed pad is connected internally with SW pins 1-4, 23-26 and should be soldered to a large copper area to reduce thermal resistance.", 28 EP (power) "Ground. The exposed pad is connected internally to GND Pins 6, 10, 16 and 21, and should be soldered to a large copper area to reduce thermal resistance."